# Altium schematic symbol library MP4462_MP4560_AllCanUse_SOIC8.SchLib: 1 symbol
Pins are listed as number, name and electrical type; pins without a type are passive.

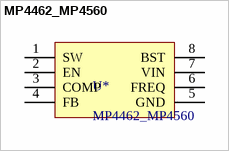
[diagram p0: symbol MP4462_MP4560]

## MP4462_MP4560
designator U*
footprint LC-SOIC-8_EP_150mil
pins: 1 SW, 2 EN, 3 COMP, 4 FB, 5 GND, 6 FREQ, 7 VIN, 8 BST